# EAGLE library part MDSSV-BD05 (library con-yamaichi)
YAMAICHI CONNECTOR
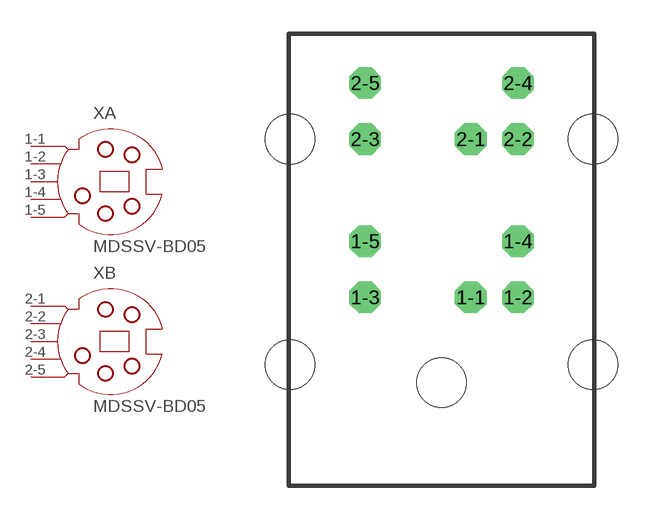
[diagram p18: symbol with the pads of SSV-BD05; footprint SSV-BD05]

Designator prefix X; gates A=SSV-BC05 B=SSV-BC05

## MDSSV-BD05 (OC_FARNELL: unknown; OC_NEWARK: unknown)  [SSV-BD05]
1-1  A:1  pas
1-2  A:2  pas
1-3  A:3  pas
1-4  A:4  pas
1-5  A:5  pas
2-1  B:1  pas
2-2  B:2  pas
2-3  B:3  pas
2-4  B:4  pas
2-5  B:5  pas

## Footprint SSV-BD05 (pad centres in mm)
Mini Din YAMAICHI CONNECTOR
drill 0.9 octagon: 1-1 1.3,8.5; 1-2 3.4,8.5; 1-3 -3.4,8.5; 1-4 3.4,11; 1-5 -3.4,11; 2-1 1.3,15.55; 2-2 3.4,15.55; 2-3 -3.4,15.55; 2-4 3.4,18.05; 2-5 -3.4,18.05
hole 2.2 at -6.75,15.55
hole 2.2 at 0,4.7
hole 2.2 at 6.75,15.55
hole 2.2 at -6.75,5.5
hole 2.2 at 6.75,5.5